# EAGLE library part TLC5916/7 (library greg)
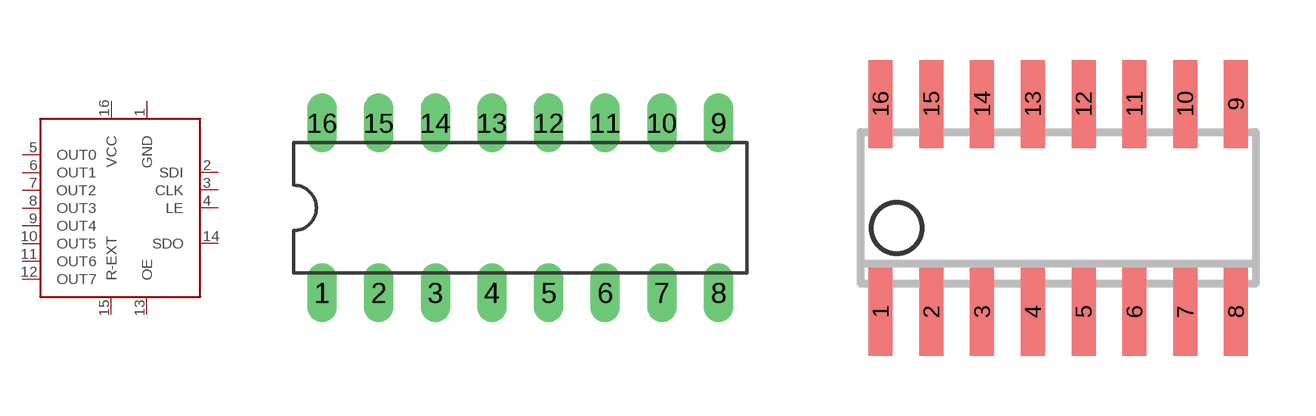
[diagram p4: symbol with the pads of DIL16; footprints DIL16, SOIC16]

Designator prefix -

## TLC5916/7DIL16  [DIL16]
1  GND  pwr
2  SDI  pas
3  CLK  pas
4  LE  pas
5  OUT0  pas
6  OUT1  pas
7  OUT2  pas
8  OUT3  pas
9  OUT4  pas
10  OUT5  pas
11  OUT6  pas
12  OUT7  pas
13  OE  pas
14  SDO  pas
15  R-EXT  pas
16  VCC  pwr

## TLC5916/7SOIC16  [SOIC16]
Pads as for DIL16

## TLC5916/7SSOP16  [SSOP16]
Pads as for DIL16

## Footprint DIL16 (pad centres in mm)
drill 0.813 long: 1 -7.62,-3.81; 2 -5.08,-3.81; 3 -2.54,-3.81; 4 0,-3.81; 5 2.54,-3.81; 6 5.08,-3.81; 7 7.62,-3.81; 8 10.16,-3.81; 9 10.16,3.81; 10 7.62,3.81; 11 5.08,3.81; 12 2.54,3.81; 13 0,3.81; 14 -2.54,3.81; 15 -5.08,3.81; 16 -7.62,3.81

## Footprint SOIC16 (pad centres in mm)
smd 0.6 x 2.2: 1 -4.445,-2.6; 2 -3.175,-2.6; 3 -1.905,-2.6; 4 -0.635,-2.6; 5 0.635,-2.6; 6 1.905,-2.6; 7 3.175,-2.6; 8 4.445,-2.6; 9 4.445,2.6; 10 3.175,2.6; 11 1.905,2.6; 12 0.635,2.6; 13 -0.635,2.6; 14 -1.905,2.6; 15 -3.175,2.6; 16 -4.445,2.6

## Footprint SSOP16 (pad centres in mm)
smd 0.4 x 1.8: 1 -1.655,-3; 2 -1.005,-3; 3 -0.355,-3; 4 0.295,-3; 5 0.945,-3; 6 1.595,-3; 7 2.245,-3; 8 2.895,-3; 9 2.895,3; 10 2.245,3; 11 1.595,3; 12 0.945,3; 13 0.295,3; 14 -0.355,3; 15 -1.005,3; 16 -1.655,3